# Altium schematic symbol library MOSFET_N_GDS.Schlib: 1 symbol
Pins are listed as number, name and electrical type; pins without a type are passive.

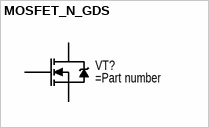
[diagram p0: symbol MOSFET_N_GDS]

## MOSFET_N_GDS
designator VT?
pins: 1 G, 2 D, 3 S